# EAGLE library part SN74HC04PWR (library texas-instruments)
IC HEX INVERTER
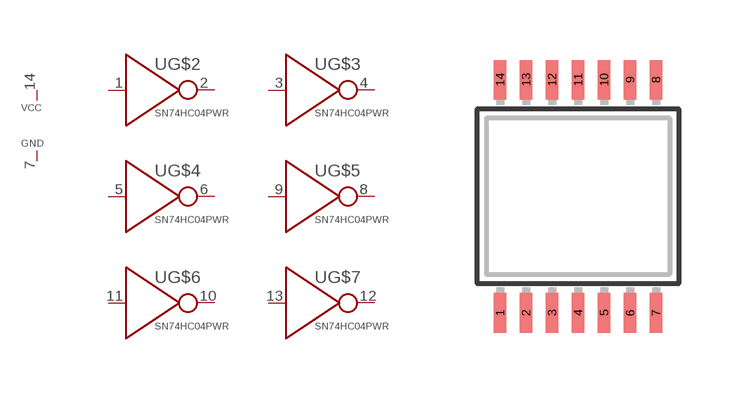
[diagram p38: symbol with the pads of TSSOP14; footprint TSSOP14]

Designator prefix U; gates G$1=PWR/GND G$2=BUF_INV G$3=BUF_INV G$4=BUF_INV G$5=BUF_INV G$6=BUF_INV G$7=BUF_INV

## SN74HC04PWR (DIGIKEY: 296-8208-1-ND; MFR: Texas Instruments; MPN: SN74HC04PWR; P1I: o)  [TSSOP14]
1  G$2:IN
2  G$2:OUT
3  G$3:IN
4  G$3:OUT
5  G$4:IN
6  G$4:OUT
7  G$1:G
8  G$5:OUT
9  G$5:IN
10  G$6:OUT
11  G$6:IN
12  G$7:OUT
13  G$7:IN
14  G$1:V  pwr

## Footprint TSSOP14 (pad centres in mm)
Thin Shrink Small Outline Plastic 14
smd 0.305 x 0.991: 1 -1.95,-2.918; 2 -1.3,-2.918; 3 -0.65,-2.918; 4 0,-2.918; 5 0.65,-2.918; 6 1.3,-2.918; 7 1.95,-2.918; 8 1.95,2.918; 9 1.3,2.918; 10 0.65,2.918; 11 0,2.918; 12 -0.65,2.918; 13 -1.3,2.918; 14 -1.95,2.918